# Altium schematic symbol library Schlib1.SchLib: 12 symbols
Pins are listed as number, name and electrical type; pins without a type are passive.

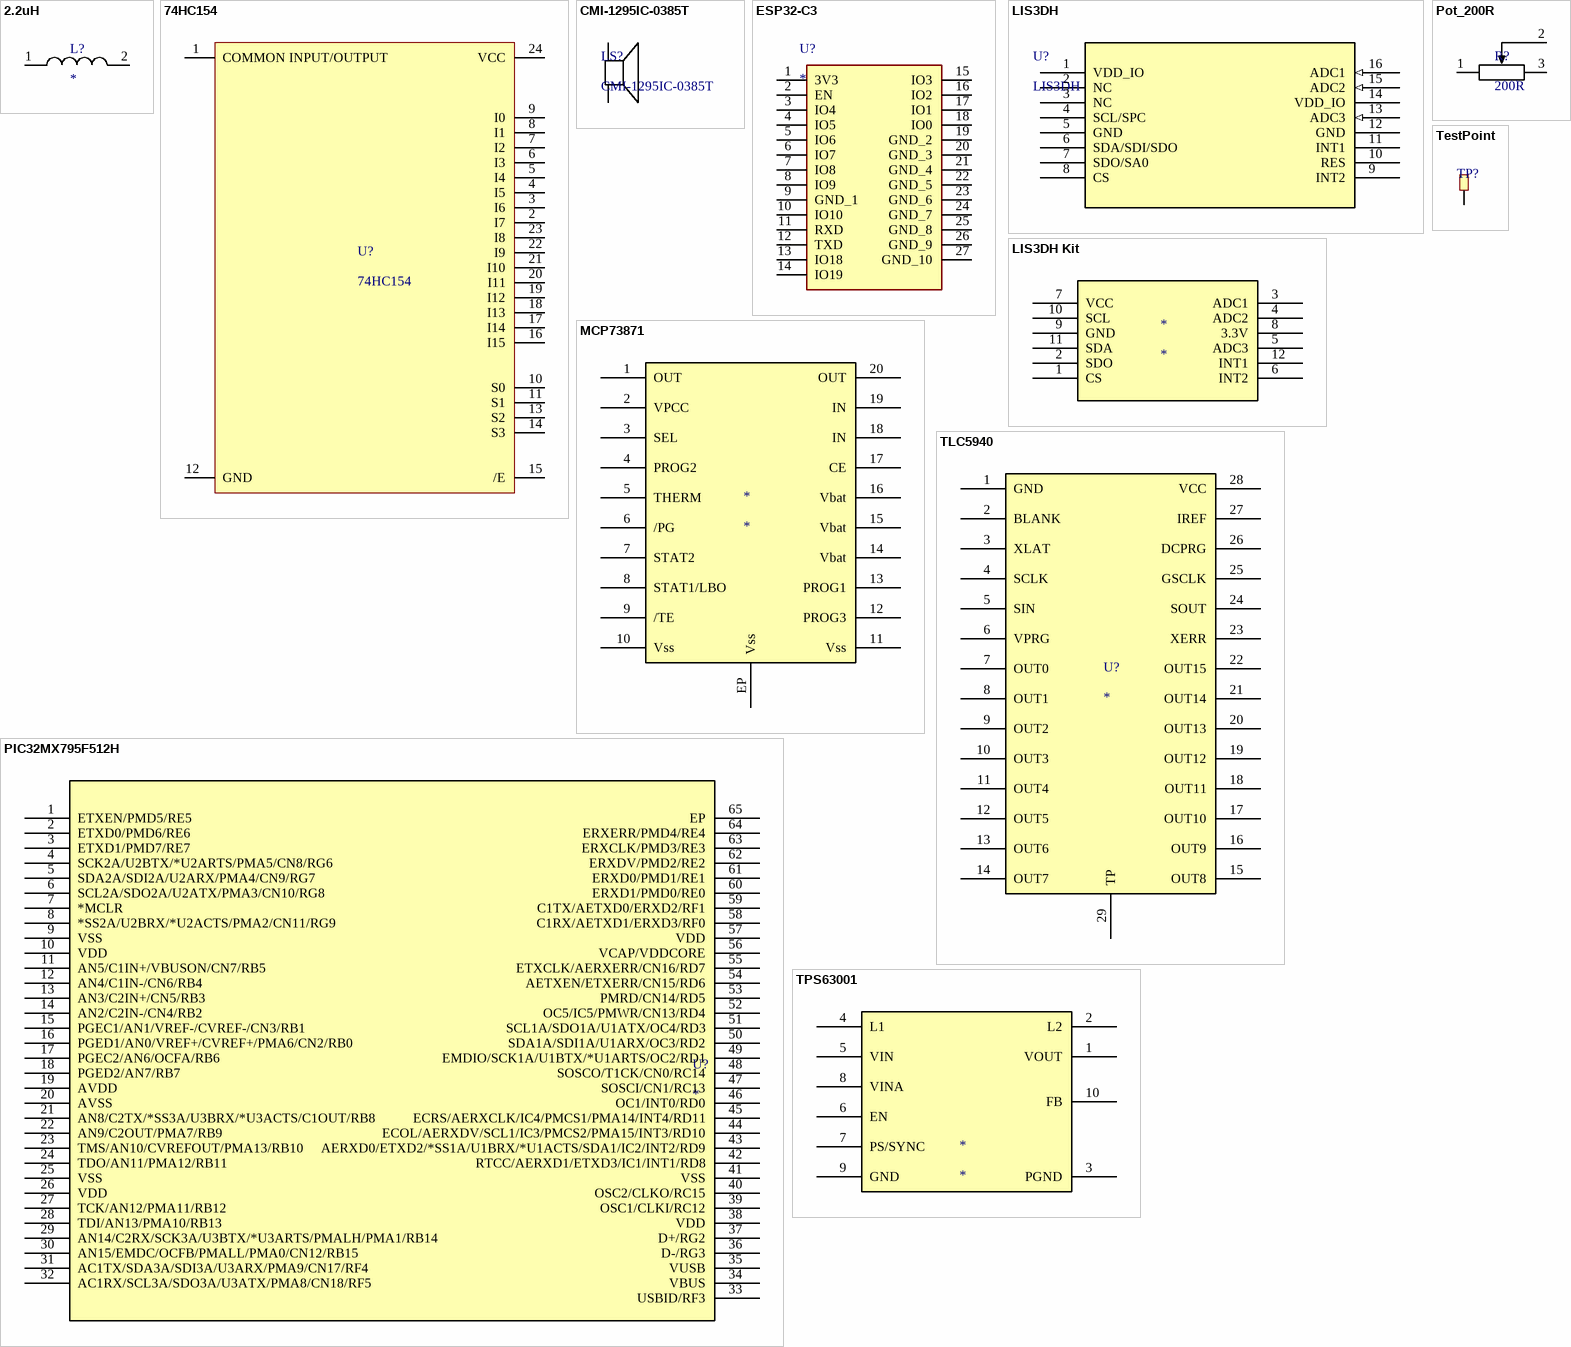
[diagram p0: symbols 2.2uH to TPS63001]

## 2.2uH
designator L?
footprint IND_2.2uH
pins: 1, 2

## 74HC154
designator U?
footprint SOP127P1030X265-24N (74HC154)
pins: 1 COMMON INPUT/OUTPUT, 2 I7, 3 I6, 4 I5, 5 I4, 6 I3, 7 I2, 8 I1, 9 I0, 10 S0, 11 S1, 12 GND, 13 S2, 14 S3, 15 /E, 16 I15, 17 I14, 18 I13, 19 I12, 20 I11, 21 I10, 22 I9, 23 I8, 24 VCC

## CMI-1295IC-0385T
designator LS?
12 mm, 3 Vdc, 85 dB, Through Hole, Driving Circuit, Magnetic Audio Indicator Buzzer
footprint CMI-1295IC-0385T (12 mm, 3 Vdc, 85 dB, Through Hole, Driving Circuit, Magnetic Audio Indicator Buzzer)
pins: 1 +, 2 -

## ESP32-C3
designator U?
footprint ESP32_C3
pins: 1 3V3, 2 EN, 3 IO4, 4 IO5, 5 IO6, 6 IO7, 7 IO8, 8 IO9, 9 GND_1, 10 IO10, 11 RXD, 12 TXD, 13 IO18, 14 IO19, 15 IO3, 16 IO2, 17 IO1, 18 IO0, 19 GND_2, 20 GND_3, 21 GND_4, 22 GND_5, 23 GND_6, 24 GND_7, 25 GND_8, 26 GND_9, 27 GND_10

## LIS3DH
designator U?
3-axis MEMS accelerometer, ultra-low-power,  &#177;2g/&#177;4g/&#177;8g/&#177;16g full scale, high-speed I2C/SPI digital output, embedded FIFO, high-performance acceleration sensor, LLGA 16 3x3x1.0 package; Manufacturer_Name: STMicroelectronics; Copyright: Copyright (C) 2025 Ultra Librarian. All rights reserved.; Manufacturer_Part_Number: LIS3DH; RefDes: RefDes; Type: Type
footprint LGA-16_3x3x1mm_STM
pins: 1 VDD_IO (power), 2 NC, 3 NC, 4 SCL/SPC, 5 GND (power), 6 SDA/SDI/SDO, 7 SDO/SA0, 8 CS, 9 INT2, 10 RES, 11 INT1, 12 GND (power), 13 ADC3 (in), 14 VDD_IO (power), 15 ADC2 (in), 16 ADC1 (in)

## LIS3DH Kit
designator *
footprint LIS3DH_Kit
pins: 1 CS, 2 SDO, 3 ADC1, 4 ADC2, 5 ADC3 (power), 6 INT2, 7 VCC, 8 3.3V, 9 GND, 10 SCL, 11 SDA, 12 INT1 (power)

## MCP73871
designator *
footprint QFN50P400X400X100_HS-21N (MCP73871)
pins: 1 OUT, 2 VPCC, 3 SEL, 4 PROG2, 5 THERM, 6 /PG, 7 STAT2, 8 STAT1/LBO, 9 /TE, 10 Vss, 11 Vss, 12 PROG3, 13 PROG1, 14 Vbat, 15 Vbat, 16 Vbat, 17 CE, 18 IN, 19 IN, 20 OUT, EP Vss

## PIC32MX795F512H
designator U?
footprint TQFP64_10x10MC_MCH
pins: 1 ETXEN/PMD5/RE5, 2 ETXD0/PMD6/RE6, 3 ETXD1/PMD7/RE7, 4 SCK2A/U2BTX/*U2ARTS/PMA5/CN8/RG6, 5 SDA2A/SDI2A/U2ARX/PMA4/CN9/RG7, 6 SCL2A/SDO2A/U2ATX/PMA3/CN10/RG8, 7 *MCLR, 8 *SS2A/U2BRX/*U2ACTS/PMA2/CN11/RG9, 9 VSS, 10 VDD, 11 AN5/C1IN+/VBUSON/CN7/RB5, 12 AN4/C1IN-/CN6/RB4, 13 AN3/C2IN+/CN5/RB3, 14 AN2/C2IN-/CN4/RB2, 15 PGEC1/AN1/VREF-/CVREF-/CN3/RB1, 16 PGED1/AN0/VREF+/CVREF+/PMA6/CN2/RB0, 17 PGEC2/AN6/OCFA/RB6, 18 PGED2/AN7/RB7, 19 AVDD, 20 AVSS, 21 AN8/C2TX/*SS3A/U3BRX/*U3ACTS/C1OUT/RB8, 22 AN9/C2OUT/PMA7/RB9, 23 TMS/AN10/CVREFOUT/PMA13/RB10, 24 TDO/AN11/PMA12/RB11, 25 VSS, 26 VDD, 27 TCK/AN12/PMA11/RB12, 28 TDI/AN13/PMA10/RB13, 29 AN14/C2RX/SCK3A/U3BTX/*U3ARTS/PMALH/PMA1/RB14, 30 AN15/EMDC/OCFB/PMALL/PMA0/CN12/RB15, 31 AC1TX/SDA3A/SDI3A/U3ARX/PMA9/CN17/RF4, 32 AC1RX/SCL3A/SDO3A/U3ATX/PMA8/CN18/RF5, 33 USBID/RF3, 34 VBUS, 35 VUSB, 36 D-/RG3, 37 D+/RG2, 38 VDD, 39 OSC1/CLKI/RC12, 40 OSC2/CLKO/RC15, 41 VSS, 42 RTCC/AERXD1/ETXD3/IC1/INT1/RD8, 43 AERXD0/ETXD2/*SS1A/U1BRX/*U1ACTS/SDA1/IC2/INT2/RD9, 44 ECOL/AERXDV/SCL1/IC3/PMCS2/PMA15/INT3/RD10, 45 ECRS/AERXCLK/IC4/PMCS1/PMA14/INT4/RD11, 46 OC1/INT0/RD0, 47 SOSCI/CN1/RC13, 48 SOSCO/T1CK/CN0/RC14, 49 EMDIO/SCK1A/U1BTX/*U1ARTS/OC2/RD1, 50 SDA1A/SDI1A/U1ARX/OC3/RD2, 51 SCL1A/SDO1A/U1ATX/OC4/RD3, 52 OC5/IC5/PMWR/CN13/RD4, 53 PMRD/CN14/RD5, 54 AETXEN/ETXERR/CN15/RD6, 55 ETXCLK/AERXERR/CN16/RD7, 56 VCAP/VDDCORE, 57 VDD, 58 C1RX/AETXD1/ERXD3/RF0, 59 C1TX/AETXD0/ERXD2/RF1, 60 ERXD1/PMD0/RE0, 61 ERXD0/PMD1/RE1, 62 ERXDV/PMD2/RE2, 63 ERXCLK/PMD3/RE3, 64 ERXERR/PMD4/RE4, 65 EP

## Pot_200R
designator R?, comment 200R
Value: 200R
footprint POT_200r
pins: 1, 2, 3

## TestPoint
designator TP?  (value not drawn)
footprint KEYSTONE_5019
pins: 1

## TLC5940
designator U?
footprint TSOP65P640X120_HS-29N (TLC5940)
pins: 1 GND, 2 BLANK, 3 XLAT, 4 SCLK, 5 SIN, 6 VPRG, 7 OUT0, 8 OUT1, 9 OUT2, 10 OUT3, 11 OUT4, 12 OUT5, 13 OUT6, 14 OUT7, 15 OUT8, 16 OUT9, 17 OUT10, 18 OUT11, 19 OUT12, 20 OUT13, 21 OUT14, 22 OUT15, 23 XERR, 24 SOUT, 25 GSCLK, 26 DCPRG, 27 IREF, 28 VCC, 29 TP

## TPS63001
designator *
footprint DRC0010J (TPS63000)
pins: 1 VOUT, 2 L2, 3 PGND, 4 L1, 5 VIN, 6 EN, 7 PS/SYNC, 8 VINA, 9 GND, 10 FB